# Altium schematic symbol library Diode_SMD.SchLib: 19 symbols
Pins are listed as number, name and electrical type; pins without a type are passive.

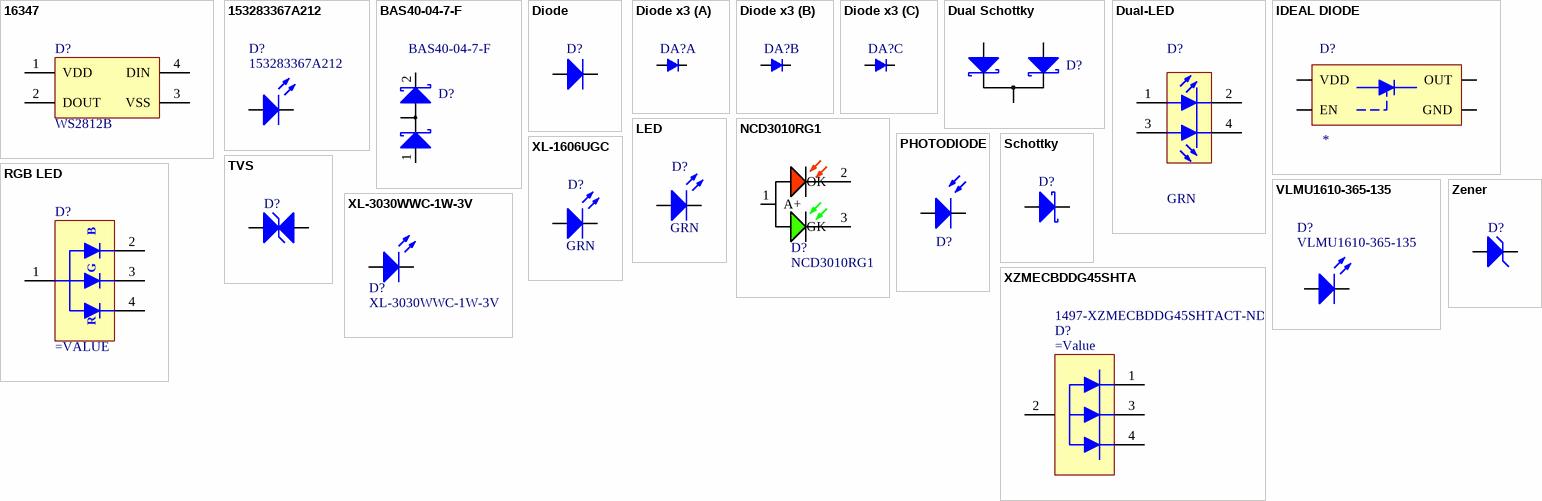
[diagram p0: symbols 16347 to Zener]

## 16347
designator D?, comment WS2812B
Address Led Red/grn/blue; Manufacturer: SparkFun; Manufacturer Part Number: 16347; Supplier: DigiKey; Supplier Part Number: 1568-16347CT-ND; Category: Optoelectronics; Stock: 156878; Pricing: 1=0,68 (USD)
footprint WORLDSEMI_WS2812B
pins: 1 VDD, 2 DOUT, 3 VSS, 4 DIN

## 153283367A212
designator D?
Uv Emitter, 365Nm, Uv-A, Plcc-2 Rohs Compliant: Yes |Wurth Elektronik 153283367A212; Manufacturer: Wurth Electronics; Forward Current: 90mA; Forward Voltage: 3.6V; Reverse Voltage: 5V; Viewing Angle: 120°; Supplier: Digikey; Supplier Part Number: 732-153283367A212CT-ND; Manufacturer Part Number: 153283367A212; RoHS: No; Category: Uncategorized; Stock: 2673; Pricing: 1=0,34, 10=0,306, 100=0,279, 250=0,261, 500=0,189 (USD); Min Operating Temperature: -40°C; Max Operating Temperature: 65°C; Length: 3.5mm; Width: 2.8mm; Height: 700um; ComponentLink1URL: https://datasheet.octopart.com/153283367A212-Wurth-Elektronik-datasheet-166322873.pdf?src-supplier=Newark; ComponentLink1Description: https://datasheet.octopart.com/153283367A212-Wurth-Elektronik-datasheet-166322873.pdf?src-supplier=Newark
footprint WURTH_153283367A212 (1411 (3528 métrico), 2 Pads)
pins: A, K

## BAS40-04-7-F
designator D?
DIODE SCHOTTKY 40V 350MW SOT23-3; Manufacturer: Diodes; Forward Current: 200mA; Peak Reverse Current: 200nA; Forward Voltage: 1V; Reverse Recovery Time: 5ns; Max Forward Surge Current (Ifsm): 600mA; Capacitance: 5pF; Supplier 1: Digi-Key; Manufacturer Part Number: BAS40-04-7-F; RoHS: Yes; Category: Rectifier Diodes; Stock 1: 375789; Pricing 1: 1=0,21000, 10=0,17400, 25=0,14560, 100=0,07110, 250=0,06996, 500=0,05930, 1000=0,04121 (USD); Mount: Surface Mount; Case/Package: SOT-23; Number of Pins: 3; Weight: 0.000282oz; Contact Plating: Tin,Matte; Min Operating Temperature: -55°C; Max Operating Temperature: 125°C; Package Quantity: 3000; Packaging: Tape and Reel; Max Power Dissipation: 350mW; Average Rectified Current: 200mA; Max Repetitive Reverse Voltage (Vrrm): 40V; Peak Non-Repetitive Surge Current: 600mA; Power Dissipation: 350mW; Termination: SMD/SMT; Power Rating: 350mW; Max Reverse Voltage (DC): 40V; Length: 3.05mm; Height: 1mm; Width: 1.4mm; Radiation Hardening: No; REACH SVHC: No SVHC; Lead Free: Lead Free; ComponentLink1URL: https://datasheet.ciiva.com/25946/ds11006-25946962.pdf?src-supplier=Avnet+Europe; ComponentLink1Description: https://datasheet.ciiva.com/25946/ds11006-25946962.pdf?src-supplier=Avnet+Europe; ComponentLink2URL: https://datasheet.ciiva.com/8303/ds11006-8303212.pdf?src-supplier=Avnet; ComponentLink2Description: https://datasheet.ciiva.com/8303/ds11006-8303212.pdf?src-supplier=Avnet; ComponentLink3URL: https://datasheet.ciiva.com/22695/1911827-22695788.pdf?src-supplier=Element14; ComponentLink3Description: https://datasheet.ciiva.com/22695/1911827-22695788.pdf?src-supplier=Element14; ComponentLink4URL: https://datasheet.ciiva.com/1177/ds11006-1177656.pdf?src-supplier=Element14; ComponentLink4Description: https://datasheet.ciiva.com/1177/ds11006-1177656.pdf?src-supplier=Element14; ComponentLink5URL: https://datasheet.ciiva.com/16379/ds11006-16379065.pdf?src-supplier=Future+Electronics; ComponentLink5Description: https://datasheet.ciiva.com/16379/ds11006-16379065.pdf?src-supplier=Future+Electronics; ComponentLink6URL: https://datasheet.ciiva.com/4715/ds11006-4715662.pdf?src-supplier=Mouser; ComponentLink6Description: https://datasheet.ciiva.com/4715/ds11006-4715662.pdf?src-supplier=Mouser; Value: BAS40-04-7-F; Supplier Part Number 1: BAS40-04FDICT-ND
footprint SOT23_N (SOT23, 3-Leads, Body 2.9x1.3mm, Pitch 0.95mm, Lead Span 2.3mm - Reverse Pinning, IPC Medium Density)
pins: 1 A, 2 K, 3 A

## Diode
designator D?
Default Diode; Populated: Yes; ROHS: Yes; LifeCycle: Checked
footprint DO214AA
footprint DO214AC
footprint DO214AC-W
footprint DO214BA
footprint GF1
footprint MELF-MLL41
footprint MICROMELF-R
footprint MICROMELF-W
footprint MINIMELF
footprint SC79_INFINEON
footprint SCD80_INFINEON
footprint SMB
footprint SMC
footprint SOD80C
footprint SOD106-R
footprint SOD106-W
footprint SOD106A-R
footprint SOD110-R
footprint SOD110-W
footprint SOD-123
footprint SOD-123FL
footprint SOD-323
footprint SOD-323F
footprint SOD-523
footprint D0603 (Chip Diode 2-Leads, Body 1,60x0,80mm, IPC Medium Density)
footprint D0805 (Chip Diode, 2-Leads, Body 2,00x1,25mm, IPC Medium Density)
footprint D1206 (Chip Diode, 2-Leads, Body 3,20x1,60mm, IPC Medium Density)
footprint DO216AA
footprint SMA
footprint DO222AA (DO216AA ST-MITE)
footprint DO214AB
footprint SOD-128
footprint SOD923
footprint DO-219AB (SMF) (SODFL, 2-Leads, Body 1.80x3.70mm, IPC Medium Density)
footprint DPAK (D-PAK, 3-Pads, Body 6.21x6.73mm (max), IPC Medium Density)
footprint D2PAK_N (D2-PAK, 4-Leads, Body 8.8x10.4mm, Pitch 2.54mm, Lead Span 15.1mm, IPC Medium Density)
footprint SOD-123F
pins: A, K

## Diode x3
designator DA?
Default Diode Array x3; Populated: Yes; ROHS: Yes; LifeCycle: Checked
footprint SOT363 (SOT363, 6-Leads, Body 2.15x2.10mm, Pitch 0.65mm, IPC Medium Density)
part A pins: 1 A1, 6 C1
part B pins: 2 A2, 5 C2
part C pins: 3 A3, 4 C3

## Dual Schottky
designator D?
Dual Schottky; Populated: Yes; ROHS: Yes; LifeCycle: Checked
footprint SOT23_N (SOT23, 3-Leads, Body 2.9x1.3mm, Pitch 0.95mm, Lead Span 2.3mm - Reverse Pinning, IPC Medium Density)
pins: 1 A2, 2 A1, 3 KC

## Dual-LED
designator D?, comment GRN
Dual LED Diode; Populated: Yes; Value: GRN; ROHS: Yes; LifeCycle: Checked
footprint LED_1210
footprint 1206- RED/GREEN
pins: 1 A1, 2 K1, 3 A2, 4 K2

## IDEAL DIODE
designator D?
footprint SOT23-5 (SOT23, 5-Leads, Body 2,90x2,45mm, Pitch 0,95mm, IPC Medium Density)
pins: 1 VDD, 2 GND, 3 EN, 5 OUT

## LED
designator D?, comment GRN
LED Diode; Populated: Yes; Value: GRN; ROHS: Yes; LifeCycle: Checked
footprint LED1608L(0603)
footprint LED-0603-TTW
footprint LED_0603
footprint LED_0805
footprint SMART-LED
footprint LED_1206
footprint SMARTLED-TTW
footprint LED_0402_BLUE
footprint LED_0402_GREEN
footprint LED_0402_ORANGE
footprint LED_0402_RED
footprint LED_0402_YELLOW
footprint LED_0603_BLUE
footprint LED_0603_GREEN
footprint LED_0603_RED
footprint LED_0603_YELLOW
footprint LED_0805_BLUE
footprint LED_0805_GREEN
footprint LED_0603_ORANGE
footprint LED_0805_ORANGE
footprint LED_0805_RED
footprint LED_0805_YELLOW
footprint LED_1206_BLUE
footprint LED_1206_GREEN
footprint LED_1206_RED
footprint CLED-1
footprint 4-PLCC
footprint Model Name (Model Description)
footprint LED_1206_GREEN RIGHT
footprint LED_1206_RED RIGHT
footprint LED_0603ANG_GREEN
footprint HARVATEK_B2151IR-20C000133U1930 (2-SMD)
pins: A, K

## NCD3010RG1
designator D?
LED ORANGE RED, EMERALD GREEN SMD; Manufacturer: NATIONSTAR; ComponentLink1Description: LCSC; ComponentLink1URL: https://www.lcsc.com/product-detail/C2917189.html?s_z=n_q_C2917189&globalKeyword=C2917189; ComponentLink2Description: Datasheet; ComponentLink2URL: https://www.lcsc.com/datasheet/C2917189.pdf?spm=wm.sxq.inf.ggs&lcsc_vid=Q1ldBVxeRAUNBgJXFVlcXgFfQQBdUQVWQVYNVFxTFQAxVlNeQ1JcU1ZeRldYVDtW; Manufacturer Part Number: NCD3010RG1; Supplier 1: LCSC; Supplier 1 Part Number: C2917189
footprint NCD3010RG1 (/ 170726 / J.Jaramillo)
pins: 1 A+, 2 OK, 3 GK

## PHOTODIODE
designator D?
footprint HARVATEK_B2151IR-20C000133U1930 (2-SMD)
pins: A, K

## RGB LED
designator D?
footprint 4-PLCC - 2x2
footprint B3173BGR-20C0001Q3U1930
footprint APHF1608SEEQBDZGKC
footprint WURTH_155124M173200 (LED RGB CLEAR 1204 SMD R/A)
footprint CREE_CLMVC-FKA-CL1D1L71BB7C3C3 (2.00mm L x 2.00mm W, 4PLCC)
pins: 1 A, 2 KB, 3 KG, 4 KR
text: B; G; R

## Schottky
designator D?
Schottky Diode; Populated: Yes; ROHS: Yes; LifeCycle: Checked
footprint DO214AA
footprint DO214AC
footprint DO214AC-W
footprint DO214BA
footprint GF1
footprint MELF-MLL41
footprint MICROMELF-R
footprint MICROMELF-W
footprint MINIMELF
footprint SC79_INFINEON
footprint SCD80_INFINEON
footprint SMB
footprint SMC
footprint SOD80C
footprint SOD106-R
footprint SOD106-W
footprint SOD106A-R
footprint SOD110-R
footprint SOD110-W
footprint SOD-123
footprint SOD-323
footprint SOD-123FL
footprint SOD-323F
footprint SOD-523
footprint D0603 (Chip Diode 2-Leads, Body 1,60x0,80mm, IPC Medium Density)
footprint D0805 (Chip Diode, 2-Leads, Body 2,00x1,25mm, IPC Medium Density)
footprint D1206 (Chip Diode, 2-Leads, Body 3,20x1,60mm, IPC Medium Density)
footprint SOD-128
footprint SOD923
footprint DO-219AB (SMF) (SODFL, 2-Leads, Body 1.80x3.70mm, IPC Medium Density)
footprint D2PAK_N (D2-PAK, 4-Leads, Body 8.8x10.4mm, Pitch 2.54mm, Lead Span 15.1mm, IPC Medium Density)
footprint SOD-123F
pins: A, K

## TVS
designator D?
TVS Diode; Populated: Yes; ROHS: Yes; LifeCycle: Checked
footprint DO214AA
footprint DO214AC
footprint DO214AC-W
footprint DO214BA
footprint GF1
footprint MELF-MLL41
footprint MICROMELF-R
footprint MICROMELF-W
footprint MINIMELF
footprint SC79_INFINEON
footprint SCD80_INFINEON
footprint SMB
footprint SMC
footprint SOD80C
footprint SOD106-R
footprint SOD106-W
footprint SOD106A-R
footprint SOD110-R
footprint SOD110-W
footprint SOD-123
footprint SOD-123FL
footprint SOD-323
footprint SOD-323F
footprint SOD-523
footprint D0603 (Chip Diode 2-Leads, Body 1,60x0,80mm, IPC Medium Density)
footprint D0805 (Chip Diode, 2-Leads, Body 2,00x1,25mm, IPC Medium Density)
footprint D1206 (Chip Diode, 2-Leads, Body 3,20x1,60mm, IPC Medium Density)
footprint SOD-128
footprint DO-219AB (SMF) (SODFL, 2-Leads, Body 1.80x3.70mm, IPC Medium Density)
footprint SOD-123F
pins: A, K

## VLMU1610-365-135
designator D?
Ultraviolet 1.6x1.6x1.4 mm 135° 3.5 V 365 nm Surface Mount UV Silicone Lens LED; Manufacturer: Vishay Semiconductors; Color: Violet; Wavelength: 367nm; Forward Current: 20mA; Forward Voltage: 3.5V; Lens Style: Square; Supplier 1: Mouser; Manufacturer Part Number: VLMU1610-365-135; RoHS: No; Stock 1: 17513; Pricing 1: 1=2,27000, 10=2,05000, 50=2,05000, 100=1,65000, 1000=1,12000, 10000=1,05000 (USD); Mount: Surface Mount; Case/Package: 0606; Case Code (Metric): 1616; Case Code (Imperial): 0606; Min Operating Temperature: -40°C; Max Operating Temperature: 85°C; Packaging: Cut Tape; Viewing Angle: 135°; Orientation: Top View; REACH SVHC: No SVHC; Lead Free: Lead Free; RoHS Compliant: Yes; ComponentLink1URL: http://www.vishay.com/docs/84374/vlmu1610-365-135.pdf?src-supplier=Digi-Key; ComponentLink1Description: http://www.vishay.com/docs/84374/vlmu1610-365-135.pdf?src-supplier=Digi-Key; ComponentLink2URL: http://www.farnell.com/datasheets/2118178.pdf?src-supplier=Element14; ComponentLink2Description: http://www.farnell.com/datasheets/2118178.pdf?src-supplier=Element14; Supplier Part Number 1: 78-VLMU1610-365-135
footprint VLMU1610-365-135 (High Power LEDs - Single Color UV 367nm 18mW 3.5V InGAN 67.5deg)
pins: A, K

## XL-1606UGC
designator D?, comment GRN
LED EMERALD GREEN WATER CLEAR SMD; Manuf1: XINGLIGHT; Manuf1Partnumber: XL-1606UGC; Populated: Yes; Value: GRN; ROHS: Yes; LifeCycle: Checked; Supplier 1: LCSC; Supplier 1 Part Number: C965863; ComponentLink1Description: LCSC; ComponentLink1URL: https://www.lcsc.com/product-detail/C965863.html?spm=wm.fly.bg.1.stp&lcsc_vid=Q1ldBVxeRAUNBgJXFVlcXgFfQQBdUQVWQVYNVFxTFQAxVlNeQlNZVFdTT1lcUzsOAxUeFF5JWBYZEEoKFBINSQcJGk4eFQsCAgIaSgADAwAHC0slRVhXU1NeRk8GEwkK; ComponentLink2Description: Datasheet; ComponentLink2URL: https://www.lcsc.com/datasheet/C965863.pdf?spm=wm.sxq.inf.ggs___wm.fly.bg.1.stp&lcsc_vid=Q1ldBVxeRAUNBgJXFVlcXgFfQQBdUQVWQVYNVFxTFQAxVlNeQlNZVFdTT1lcUzsOAxUeFF5JWBYZEEoKFBINSQcJGk4eFQsCAgIaSgADAwAHC0slRVhXU1NeRk8GEwkK
footprint XL-1606UGC (LED EMERALD GREEN WATER CLEAR SMD)
pins: 1 A, 2 K

## XL-3030WWC-1W-3V
designator D?
Manufacturer: XINGLIGHT; Manufacturer Part Number: XL-3030WWC-1W-3V; LCSC: C2843893
footprint XINGLIGHT_XL-3030WWC-1W-3V (1411 (3528 métrico), 2 Pads)
pins: A, K

## XZMECBDDG45SHTA
designator D?  Supplier Part Number 1: 1497-XZMECBDDG45SHTACT-ND
3.5X2.8MM Rgb Full Color Plcc Sm; Manufacturer: SunLED; Manufacturer Part Number: XZMECBDDG45SHTA; Supplier 1: Digi-Key; RoHS: Yes; Category: LEDs; Stock 1: 1900; Pricing 1: 1=1,06000, 10=0,67000, 100=0,49540, 500=0,45526, 1000=0,37492 (USD)
footprint SUNLED_XZMECBDDG45SHTA (3.5X2.8MM RGB FULL COLOR PLCC SM)
pins: 1 KB, 2 A, 3 KG, 4 KR

## Zener
designator D?
Zener Diode; Populated: Yes; ROHS: Yes; LifeCycle: Checked
footprint DO214AA
footprint DO214AC
footprint DO214AC-W
footprint DO214BA
footprint GF1
footprint MELF-MLL41
footprint MICROMELF-R
footprint MICROMELF-W
footprint MINIMELF
footprint SC79_INFINEON
footprint SCD80_INFINEON
footprint SMB
footprint SMC
footprint SOD80C
footprint SOD106-R
footprint SOD106-W
footprint SOD106A-R
footprint SOD110-R
footprint SOD110-W
footprint SOD-123
footprint SOD-123FL
footprint SOD-323
footprint SOD-323F
footprint SOD-523
footprint D0603 (Chip Diode 2-Leads, Body 1,60x0,80mm, IPC Medium Density)
footprint D0805 (Chip Diode, 2-Leads, Body 2,00x1,25mm, IPC Medium Density)
footprint D1206 (Chip Diode, 2-Leads, Body 3,20x1,60mm, IPC Medium Density)
footprint SOD-128
footprint SOD923
footprint DO-219AB (SMF) (SODFL, 2-Leads, Body 1.80x3.70mm, IPC Medium Density)
footprint SOD-123F
pins: A, K